# Altium footprint library Transistors.PcbLib: 4 footprints
Each footprint in its own frame and in the unit in brackets; x right, y up, seen from the top. Pads: shape width x height; smd on the part's side, far side on the other; paste and mask are expansions set on the pad; w line width, h text height; cw(c..) or ccw(c..) is an arc to the next point about the centre after c.
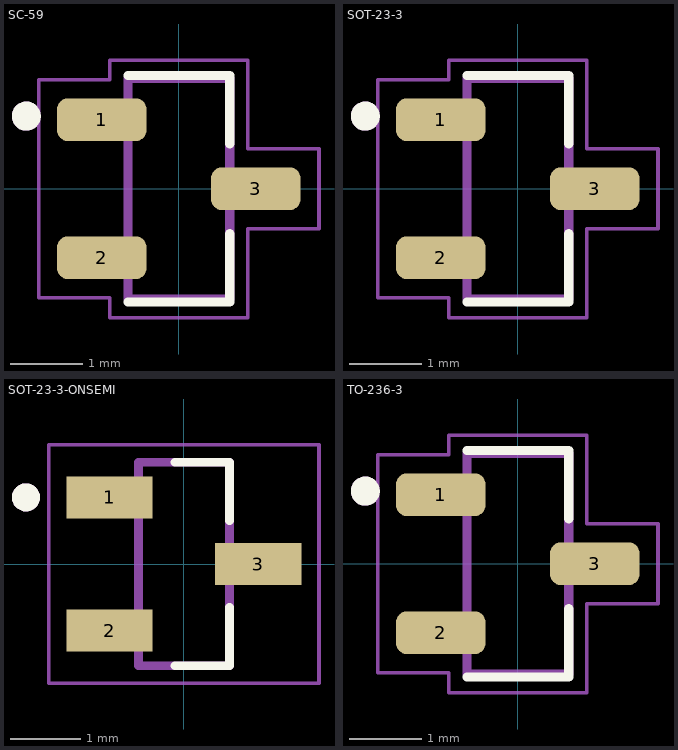
[diagram p0: the footprints below, top view; thin cyan lines are the x and y axes]

## SC-59 [mm]
pads (3):
  rrect50% 1.23x0.59 smd: 1(-1.06,0.95) 2(-1.06,-0.95) 3(1.06,0)
Top Overlay:
  circle w0.2: c-2.1,1 r0.1
  lines w0.127: -0.7,-1.56 0.7,-1.56 0.7,-0.62 ; -0.7,1.56 0.7,1.56 0.7,0.62
Mechanical 1:
  lines w0.127: -0.7,-1.52 -0.7,1.52 0.7,1.52 0.7,-1.52 -0.7,-1.52
Mechanical 13:
  circle w0.2: c-2.1,1 r0.1
  lines w0.127: -0.7,-1.52 -0.7,1.52 0.7,1.52 0.7,-1.52 -0.7,-1.52
Mechanical 15:
  lines w0.05: -1.93,-1.5 -1.93,1.5 -0.95,1.5 -0.95,1.77 0.95,1.77 0.95,0.55 1.93,0.55 1.93,-0.55 0.95,-0.55 0.95,-1.778 -0.95,-1.778 -0.95,-1.5 -1.93,-1.5
Mechanical 29:
  lines w0.05: -1.93,-1.5 -1.93,1.5 -0.95,1.5 -0.95,1.77 0.95,1.77 0.95,0.55 1.93,0.55 1.93,-0.55 0.95,-0.55 0.95,-1.778 -0.95,-1.778 -0.95,-1.5 -1.93,-1.5
  text "'.Designator'" at -0.889,-0.127 h0.4
3D body "MMBT3904LT1G.step": height 1.11, standoff 0, extent -1.2,-1.45 1.2,1.45

## SOT-23-3 [mm]
pads (3):
  rrect50% 1.23x0.59 smd: 1(-1.06,0.95) 2(-1.06,-0.95) 3(1.06,0)
Top Overlay:
  circle w0.2: c-2.1,1 r0.1
  lines w0.127: -0.7,-1.56 0.7,-1.56 0.7,-0.62 ; -0.7,1.56 0.7,1.56 0.7,0.62
Mechanical 1:
  lines w0.127: -0.7,-1.52 0.7,-1.52 0.7,1.52 -0.7,1.52 -0.7,-1.52
Mechanical 13:
  circle w0.2: c-2.1,1 r0.1
  lines w0.127: -0.7,-1.52 0.7,-1.52 0.7,1.52 -0.7,1.52 -0.7,-1.52
Mechanical 15:
  lines w0.05: -1.93,-1.5 -0.95,-1.5 -0.95,-1.778 0.95,-1.778 0.95,-0.55 1.93,-0.55 1.93,0.55 0.95,0.55 0.95,1.77 -0.95,1.77 -0.95,1.5 -1.93,1.5 -1.93,-1.5
Mechanical 29:
  lines w0.05: -1.93,-1.5 -0.95,-1.5 -0.95,-1.778 0.95,-1.778 0.95,-0.55 1.93,-0.55 1.93,0.55 0.95,0.55 0.95,1.77 -0.95,1.77 -0.95,1.5 -1.93,1.5 -1.93,-1.5
  text "'.Designator'" at -0.889,-0.127 h0.4
3D body "MMBT3904LT1G.step": height 1.11, standoff 0, extent -1.2,-1.45 1.2,1.45

## SOT-23-3-ONSEMI [mm]
height 1.11
pads (3):
  rect 1.23x0.6 smd: 1(-1.06,0.95) 2(-1.06,-0.95) 3(1.06,0)
Top Overlay:
  circle w0.2: c-2.25,0.95 r0.1
  lines w0.127: -0.125,-1.45 0.65,-1.45 0.65,-0.62 ; -0.125,1.45 0.65,1.45 0.65,0.62
Mechanical 1:
  lines w0.127: -0.65,-1.45 0.65,-1.45 0.65,1.45 -0.65,1.45 -0.65,-1.45
Mechanical 13:
  circle w0.2: c-2.25,0.95 r0.1
  lines w0.127: -0.65,-1.45 0.65,-1.45 0.65,1.45 -0.65,1.45 -0.65,-1.45
Mechanical 15:
  lines w0.05: -1.925,-1.7 1.925,-1.7 1.925,1.7 -1.925,1.7 -1.925,-1.7
Mechanical 29:
  lines w0.05: -1.925,-1.7 1.925,-1.7 1.925,1.7 -1.925,1.7 -1.925,-1.7
  text "'.Designator'" at -1.778,-0.381 h0.7
3D body "step_temp.STEP": height 1.11, standoff 0, extent -1.185,-1.46 1.185,1.46

## TO-236-3 [mm]
pads (3):
  rrect50% 1.23x0.59 smd: 1(-1.06,0.95) 2(-1.06,-0.95) 3(1.06,0)
Top Overlay:
  circle w0.2: c-2.1,1 r0.1
  lines w0.127: -0.7,-1.56 0.7,-1.56 0.7,-0.62 ; -0.7,1.56 0.7,1.56 0.7,0.62
Mechanical 1:
  lines w0.127: -0.7,-1.52 -0.7,1.52 0.7,1.52 0.7,-1.52 -0.7,-1.52
Mechanical 13:
  circle w0.2: c-2.1,1 r0.1
  lines w0.127: -0.7,-1.52 -0.7,1.52 0.7,1.52 0.7,-1.52 -0.7,-1.52
Mechanical 15:
  lines w0.05: -1.93,-1.5 -1.93,1.5 -0.95,1.5 -0.95,1.77 0.95,1.77 0.95,0.55 1.93,0.55 1.93,-0.55 0.95,-0.55 0.95,-1.778 -0.95,-1.778 -0.95,-1.5 -1.93,-1.5
Mechanical 29:
  lines w0.05: -1.93,-1.5 -1.93,1.5 -0.95,1.5 -0.95,1.77 0.95,1.77 0.95,0.55 1.93,0.55 1.93,-0.55 0.95,-0.55 0.95,-1.778 -0.95,-1.778 -0.95,-1.5 -1.93,-1.5
  text "'.Designator'" at -0.889,-0.127 h0.4
3D body "MMBT3904LT1G.step": height 1.11, standoff 0, extent -1.2,-1.45 1.2,1.45